# Altium footprint library Standard.PcbLib: 4 footprints
Each footprint in its own frame and in the unit in brackets; x right, y up, seen from the top. Pads: shape width x height; smd on the part's side, far side on the other; paste and mask are expansions set on the pad; w line width, h text height; cw(c..) or ccw(c..) is an arc to the next point about the centre after c.
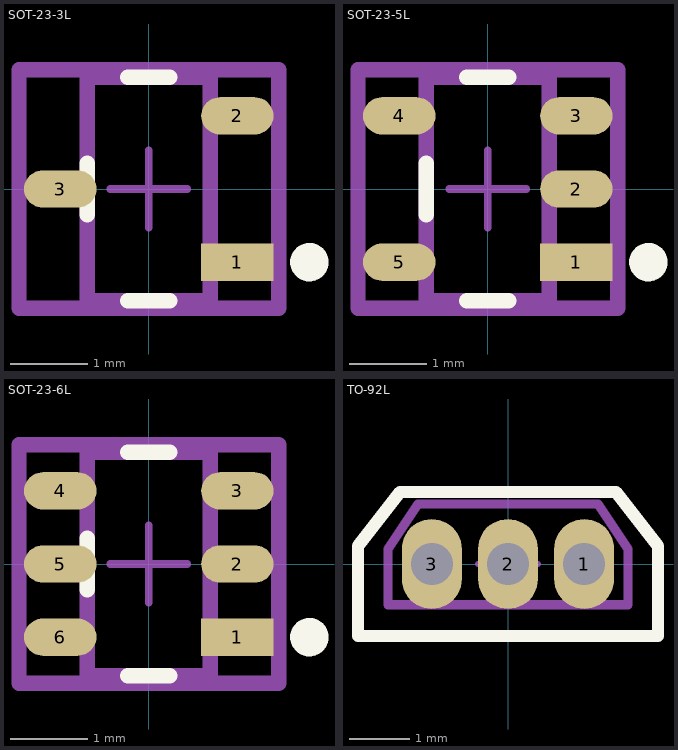
[diagram p0: the footprints below, top view; thin cyan lines are the x and y axes]

## SOT-23-3L [mm]
height 1.25
pads (3):
  rect 0.94x0.486 smd paste+0 mask+0: 1(1.15,-0.95)
  rrect100% 0.94x0.486 smd paste+0 mask+0: 2(1.15,0.95) 3(-1.15,0)
Top Overlay:
  circle w0.25: c2.085,-0.95 r0.125
  lines w0.2: -0.8,-0.332 -0.8,0.332 ; -0.271,-1.45 0.271,-1.45 ; -0.271,1.45 0.271,1.45
Top 3D Body:
  lines w0.2: -0.8,-1.45 0.8,-1.45 0.8,1.45 -0.8,1.45 -0.8,-1.45
Top Courtyard:
  lines w0.2: -1.685,-1.55 1.685,-1.55 1.685,1.55 -1.685,1.55 -1.685,-1.55
Top Assembly:
  lines w0.2: -1.685,-1.55 1.685,-1.55 1.685,1.55 -1.685,1.55 -1.685,-1.55
Top Component Center:
  lines w0.1: -0.5,0 0.5,0 ; 0,-0.5 0,0.5
3D body "SOTFL95P240X88-3L.step": height 0.88, standoff 0, extent -1.2,-1.548 1.2,1.548

## SOT-23-5L [mm]
pads (5):
  rect 0.94x0.486 smd paste+0 mask+0: 1(1.15,-0.95)
  rrect100% 0.94x0.486 smd paste+0 mask+0: 2(1.15,0) 3(1.15,0.95) 4(-1.15,0.95) 5(-1.15,-0.95)
Top Overlay:
  circle w0.25: c2.085,-0.95 r0.125
  lines w0.2: -0.8,-0.332 -0.8,0.332 ; -0.271,-1.45 0.271,-1.45 ; -0.271,1.45 0.271,1.45
Top 3D Body:
  lines w0.2: -0.8,-1.45 0.8,-1.45 0.8,1.45 -0.8,1.45 -0.8,-1.45
Top Courtyard:
  lines w0.2: -1.685,-1.55 1.685,-1.55 1.685,1.55 -1.685,1.55 -1.685,-1.55
Top Assembly:
  lines w0.2: -1.685,-1.55 1.685,-1.55 1.685,1.55 -1.685,1.55 -1.685,-1.55
Top Component Center:
  lines w0.1: -0.5,0 0.5,0 ; 0,-0.5 0,0.5
3D body "IC_On_Semiconductor_NCP718BSNADJT1G_eec.STEP": height 1, standoff 0, extent -1.419,-1.45 1.419,1.45

## SOT-23-6L [mm]
pads (6):
  rect 0.94x0.486 smd paste+0 mask+0: 1(1.15,-0.95)
  rrect100% 0.94x0.486 smd paste+0 mask+0: 2(1.15,0) 3(1.15,0.95) 4(-1.15,0.95) 5(-1.15,0) 6(-1.15,-0.95)
Top Overlay:
  circle w0.25: c2.085,-0.95 r0.125
  lines w0.2: -0.8,-0.332 -0.8,0.332 ; -0.271,-1.45 0.271,-1.45 ; -0.271,1.45 0.271,1.45
Top 3D Body:
  lines w0.2: -0.8,-1.45 -0.8,1.45 0.8,1.45 0.8,-1.45 -0.8,-1.45
Top Courtyard:
  lines w0.2: -1.685,-1.55 -1.685,1.55 1.685,1.55 1.685,-1.55 -1.685,-1.55
Top Assembly:
  lines w0.2: -1.685,-1.55 -1.685,1.55 1.685,1.55 1.685,-1.55 -1.685,-1.55
Top Component Center:
  lines w0.1: -0.5,0 0.5,0 ; 0,-0.5 0,0.5
3D body "SOT23-6L-95P280X110-6N.step": height 1.1, standoff 0, extent -1.475,-1.51 1.475,1.51

## TO-92L [mm]
pads (3):
  oval 1x1.5 hole 0.7 mask+0.051: 1(1.27,0) 2(0,0) 3(-1.27,0)
Top Overlay:
  lines w0.2: -2.5,-1.2 2.5,-1.2 2.5,0.3 1.8,1.2 -1.8,1.2 -2.5,0.3 -2.5,-1.2
Top 3D Body:
  lines w0.152: -2,-0.68 -2,0.25 -1.5,1 1.5,1 2,0.25 2,-0.68 -2,-0.68
Top Component Center:
  lines w0.1: -0.5,0 0.5,0 ; 0,-0.5 0,0.5
3D body: height 3.2, standoff 0, extent -2,-0.68 2,1